# Altium schematic symbol library FuzzyWasp-2.SchLib: 31 symbols
Pins are listed as number, name and electrical type; pins without a type are passive.

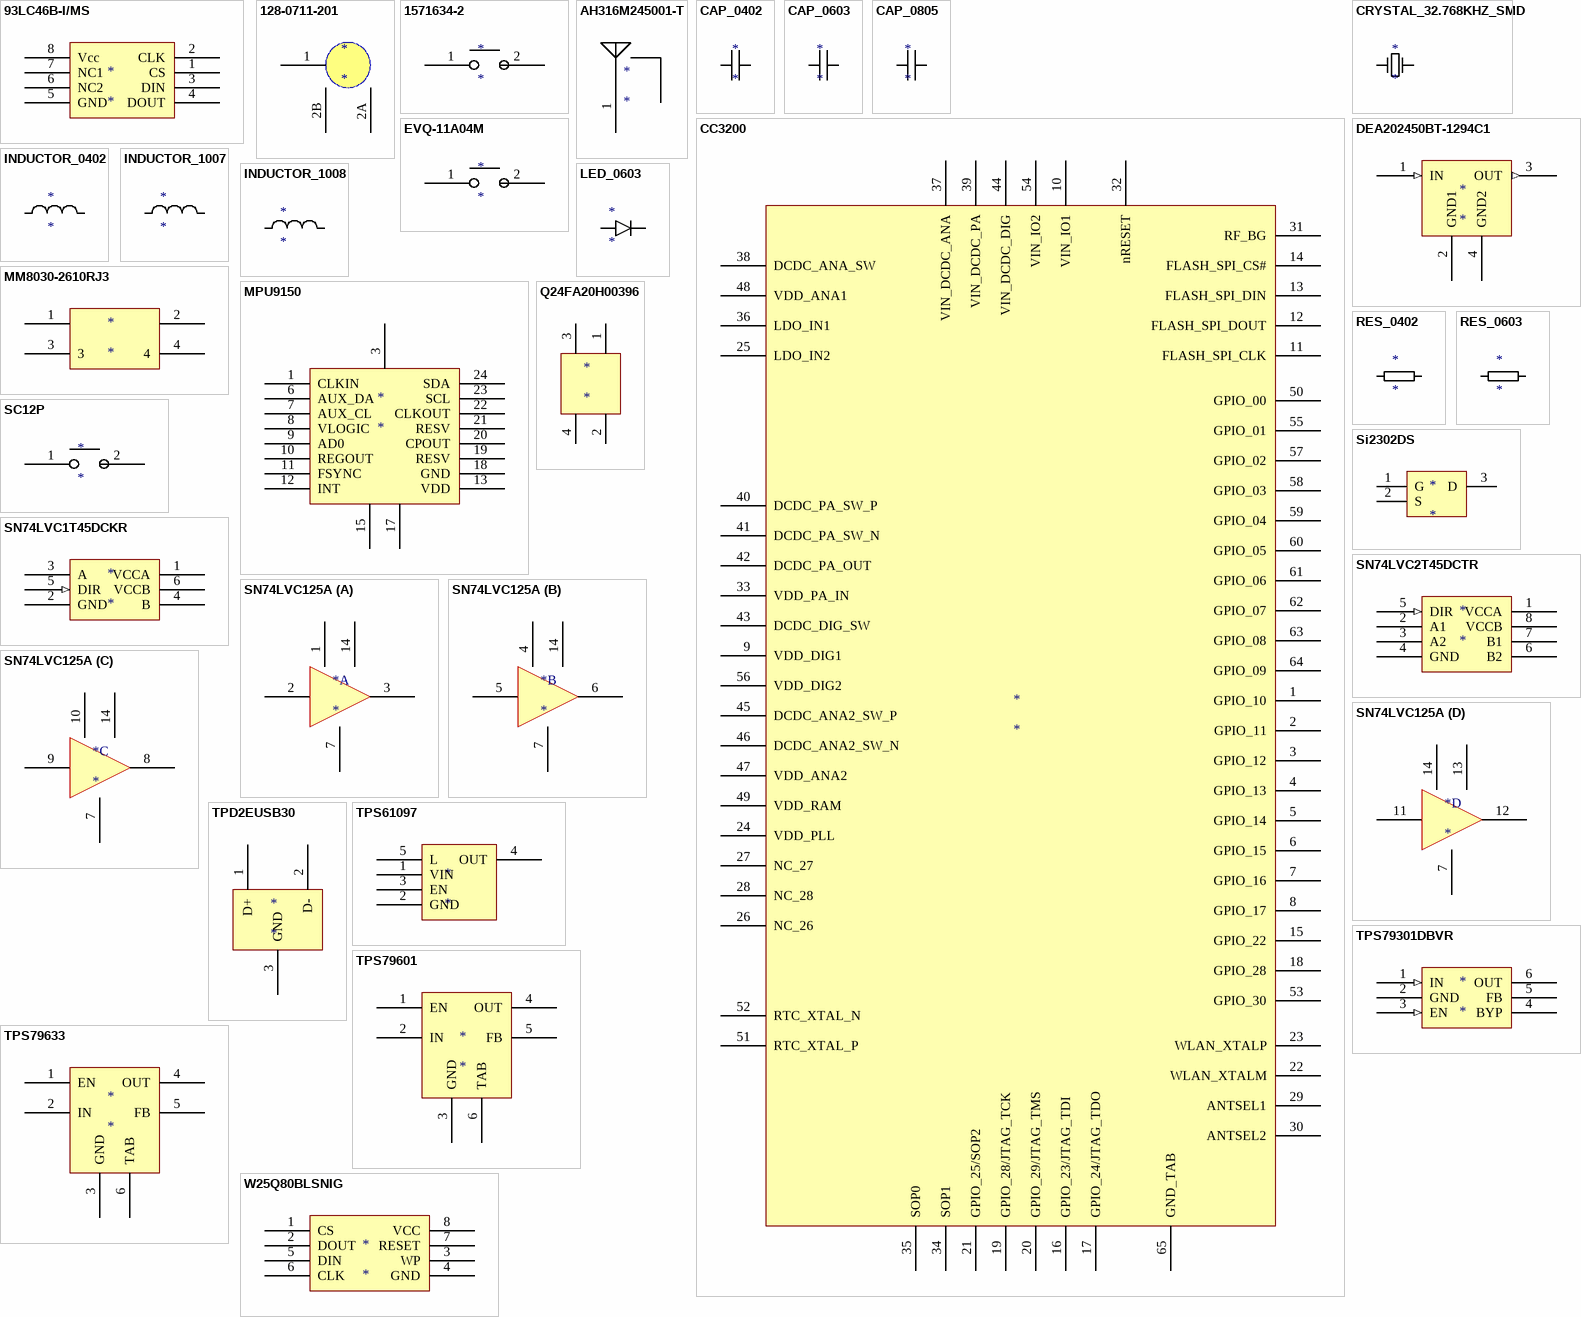
[diagram p0: symbols 93LC46B-I/MS to W25Q80BLSNIG]

## 93LC46B-I/MS
designator *
footprint 93LC46B-I-MS (TSOP, 8-Leads, Body 3.00x3.00mm, Pitch 0.65mm, IPC Medium Density)
pins: 1 CS, 2 CLK, 3 DIN, 4 DOUT, 5 GND, 6 NC2, 7 NC1, 8 Vcc

## 128-0711-201
designator *
footprint 128-0711-201
pins: 1, 2A 47, 2B 46

## 1571634-2
designator *
footprint 1571634-2
pins: 1 133, 2 134

## AH316M245001-T
designator *
footprint AH316M245001-T (ANT BLUETOOTH W-LAN ZIGBEE WIMAX)
pins: 1 Feed, 2 GND

## CAP_0402
designator *
footprint 0402
pins: 1, 2

## CAP_0603
designator *
footprint 0603
pins: 1, 2

## CAP_0805
designator *
footprint 0805
pins: 1, 2

## CC3200
designator *
footprint CC3200 (PQFN, 64-Leads, Body 9.00x9.00mm, Pitch 0.50mm, Thermal Pad 7.30x7.30mm, IPC Medium Density)
pins: 1 GPIO_10, 2 GPIO_11, 3 GPIO_12, 4 GPIO_13, 5 GPIO_14, 6 GPIO_15, 7 GPIO_16, 8 GPIO_17, 9 VDD_DIG1, 10 VIN_IO1, 11 FLASH_SPI_CLK, 12 FLASH_SPI_DOUT, 13 FLASH_SPI_DIN, 14 FLASH_SPI_CS#, 15 GPIO_22, 16 GPIO_23/JTAG_TDI, 17 GPIO_24/JTAG_TDO, 18 GPIO_28, 19 GPIO_28/JTAG_TCK, 20 GPIO_29/JTAG_TMS, 21 GPIO_25/SOP2, 22 WLAN_XTALM, 23 WLAN_XTALP, 24 VDD_PLL, 25 LDO_IN2, 26 NC_26, 27 NC_27, 28 NC_28, 29 ANTSEL1, 30 ANTSEL2, 31 RF_BG, 32 nRESET, 33 VDD_PA_IN, 34 SOP1, 35 SOP0, 36 LDO_IN1, 37 VIN_DCDC_ANA, 38 DCDC_ANA_SW, 39 VIN_DCDC_PA, 40 DCDC_PA_SW_P, 41 DCDC_PA_SW_N, 42 DCDC_PA_OUT, 43 DCDC_DIG_SW, 44 VIN_DCDC_DIG, 45 DCDC_ANA2_SW_P, 46 DCDC_ANA2_SW_N, 47 VDD_ANA2, 48 VDD_ANA1, 49 VDD_RAM, 50 GPIO_00, 51 RTC_XTAL_P, 52 RTC_XTAL_N, 53 GPIO_30, 54 VIN_IO2, 55 GPIO_01, 56 VDD_DIG2, 57 GPIO_02, 58 GPIO_03, 59 GPIO_04, 60 GPIO_05, 61 GPIO_06, 62 GPIO_07, 63 GPIO_08, 64 GPIO_09, 65 GND_TAB

## CRYSTAL_32.768KHZ_SMD
designator *
footprint ABS07 (Chip Diode, 2-Leads, Body 3.20x1.50mm, IPC Medium Density)
pins: 1, 2

## DEA202450BT-1294C1
designator *
footprint DEA202450BT-1294C1-H (FILTER BANDPASS 2.45GHZ WLAN SMD)
pins: 1 IN (in), 2 GND1, 3 OUT (out), 4 GND2

## EVQ-11A04M
designator *
footprint EVQ-11
pins: 1, 2

## INDUCTOR_0402
designator *
footprint 0402
pins: 1, 2

## INDUCTOR_1007
designator *
footprint 1007 (Chip Diode, 2-Leads, Body 2.50x1.80mm, IPC Medium Density)
pins: 1, 2

## INDUCTOR_1008
designator *
footprint Model Name1008 (Footprint not found)
pins: 1, 2

## LED_0603
designator *
footprint 0603
pins: 1, 2

## MM8030-2610RJ3
designator *
footprint MM8030-2610RJ3
pins: 1, 2, 3, 4

## MPU9150
designator *
footprint MPU9150 (PQFN, 24-Leads, Body 4.00x4.00mm, Pitch 0.50mm, Thermal Pad 3.41x3.41mm, IPC Medium Density)
pins: 1 CLKIN, 3, 6 AUX_DA, 7 AUX_CL, 8 VLOGIC, 9 AD0, 10 REGOUT, 11 FSYNC, 12 INT, 13 VDD, 15, 17, 18 GND, 19 RESV, 20 CPOUT, 21 RESV, 22 CLKOUT, 23 SCL, 24 SDA

## Q24FA20H00396
designator *
pins: 1 148, 2, 3 149, 4 151

## RES_0402
designator *
footprint 0402
pins: 1, 2

## RES_0603
designator *
footprint 0603
pins: 1, 2

## SC12P
designator *
footprint SC12P
pins: 1, 2

## Si2302DS
designator *
footprint Si2302DS (SOT23, 3-Leads, Body 2.90x2.30mm, Pitch 0.95mm, IPC Medium Density)
pins: 1 G, 2 S, 3 D

## SN74LVC1T45DCKR
designator *
footprint SN74LVC1T45DCKTG4 (SOT23, 6-Leads, Body 2.90x2.80mm, Pitch 0.95mm, IPC Medium Density)
pins: 1 VCCA, 2 GND, 3 A, 4 B, 5 DIR (in), 6 VCCB

## SN74LVC2T45DCTR
designator *
footprint SN74LVC2T45DCTR (TSOP, 8-Leads, Body 2.95x2.80mm, Pitch 0.65mm, IPC Medium Density)
pins: 1 VCCA, 2 A1, 3 A2 (oc), 4 GND, 5 DIR (in), 6 B2, 7 B1, 8 VCCB

## SN74LVC125A
designator *
part A pins: 1, 2, 3, 7, 14
part B pins: 4, 5, 6, 7, 14
part C pins: 7, 8, 9, 10, 14
part D pins: 7, 11, 12, 13, 14

## TPD2EUSB30
designator *
footprint SOT70P100X47-3N (SOT223, 3-Leads, Body 1.00x1.00mm (avg), Pitch 0.70mm, IPC Medium Density)
pins: 1 D+, 2 D-, 3 GND

## TPS61097
designator *
footprint TPS61097A-33 (SOT23, 5-Leads, Body 2.90x2.80mm, Pitch 0.95mm, IPC Medium Density)
pins: 1 VIN, 2 GND, 3 EN, 4 OUT, 5 L

## TPS79301DBVR
designator *
pins: 1 IN (in), 2 GND, 3 EN (in), 4 BYP, 5 FB, 6 OUT

## TPS79601
designator *
footprint TPS79601 (SOT223, 6-Leads, Body 6.50x7.06mm (avg), Pitch 1.27mm, IPC Medium Density)
pins: 1 EN, 2 IN, 3 GND, 4 OUT, 5 FB, 6 TAB

## TPS79633
designator *
pins: 1 EN, 2 IN, 3 GND, 4 OUT, 5 FB, 6 TAB

## W25Q80BLSNIG
designator *
footprint W25Q80BLSNIG (SOIC, 8-Leads, Body 4.90x3.90mm, Pitch 1.27mm, IPC Medium Density)
pins: 1 CS, 2 DOUT, 3 WP, 4 GND, 5 DIN, 6 CLK, 7 RESET, 8 VCC